# Altium footprint library FootprintLib.PcbLib: 36 footprints (part 1 of 3)
Each footprint in its own frame and in the unit in brackets; x right, y up, seen from the top. Pads: shape width x height; smd on the part's side, far side on the other; paste and mask are expansions set on the pad; w line width, h text height; cw(c..) or ccw(c..) is an arc to the next point about the centre after c.
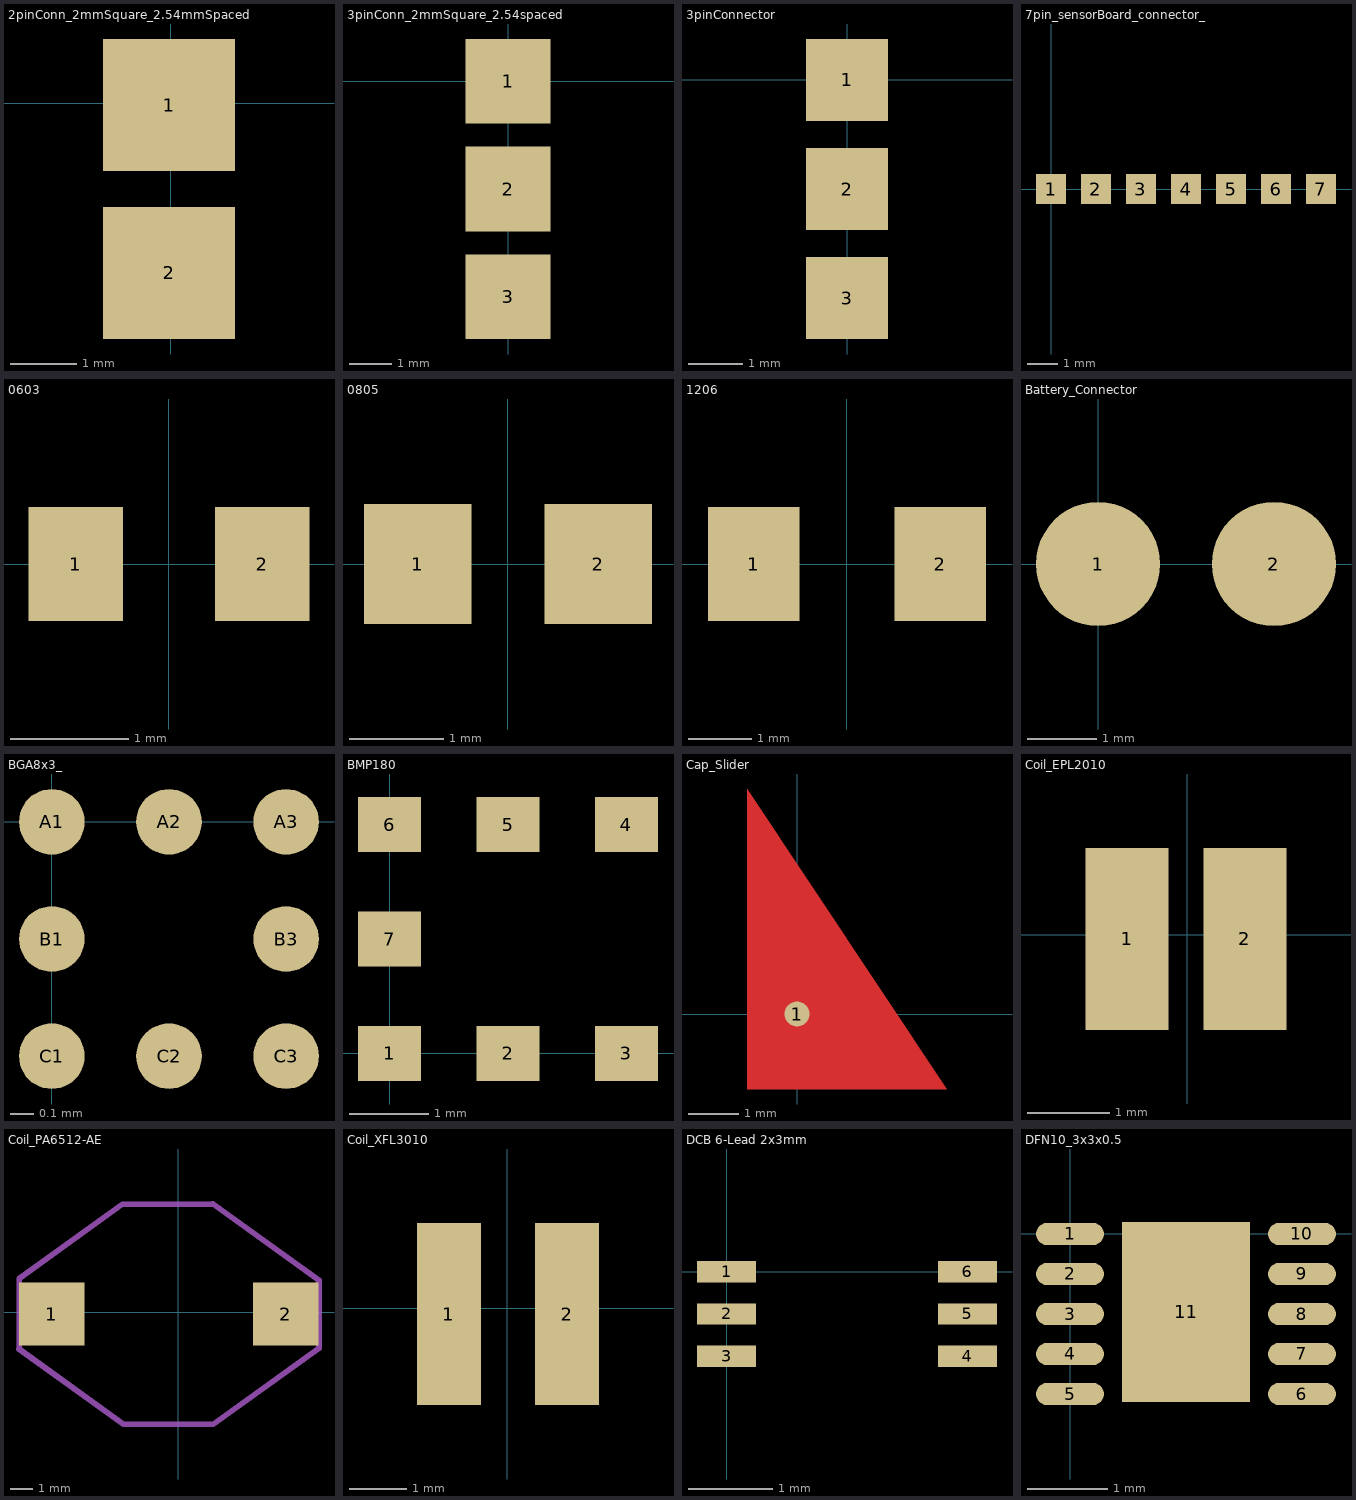
[diagram p0: the footprints below, top view; thin cyan lines are the x and y axes]

## 2pinConn_2mmSquare_2.54mmSpaced [mm]
pads (2):
  rect 2x2 smd: 1(-0.025,-0.025) 2(-0.025,-2.565)

## 3pinConn_2mmSquare_2.54spaced [mm]
pads (3):
  rect 2x2 smd: 1(0,0) 2(0,-2.54) 3(0,-5.08)

## 3pinConnector [mm]
pads (3):
  rect 1.5x1.5 smd: 1(0,0) 2(0,-2) 3(0,-4)

## 7pin_sensorBoard_connector_ [mm]
pads (7):
  rect 1x1 smd: 1(0,0) 2(1.5,0) 3(3,0) 4(4.5,0) 5(6,0) 6(7.5,0) 7(9,0)

## 0603 [mm]
pads (2):
  rect 0.8x0.965 smd: 1(-0.787,0) 2(0.788,0)

## 0805 [mm]
pads (2):
  rect 1.14x1.27 smd: 1(-0.955,0) 2(0.955,0)

## 1206 [mm]
pads (2):
  rect 1.45x1.8 smd: 1(-1.475,0) 2(1.475,0)

## Battery_Connector [mm]
pads (2):
  round 1.8 smd: 1(0,0) 2(2.55,0)

## BGA8x3_ [mm]
pads (8):
  round 0.28 smd: A1(0,0) A2(0.5,0) A3(1,0) B1(0,-0.5) B3(1,-0.5) C1(0,-1) C2(0.5,-1) C3(1,-1)

## BMP180 [mm]
pads (7):
  rect 0.8x0.7 smd: 1(0,0) 2(1.5,0) 3(3,0) 4(3,2.9) 5(1.5,2.9) 6(0,2.9) 7(0,1.45)

## Cap_Slider [mm]
pads (1):
  round 0.5 smd: 1(0,0)
Top Layer:
  region: -1,4.5 -1,-1.5 3,-1.5

## Coil_EPL2010 [mm]
pads (2):
  rect 1x2.2 smd: 1(-0.725,-0.05) 2(0.7,-0.05)

## Coil_PA6512-AE [mm]
pads (2):
  rect 2.9x2.8 smd: 1(-5.6,-0.075) 2(4.75,-0.075)
Mechanical 1:
  lines w0.254: -7.05,-1.62 -2.425,-4.95 1.55,-4.95 6.225,-1.584 6.225,1.421 1.525,4.805 ; -7.039,-1.609 -7.039,1.494 -2.475,4.78 1.5,4.78

## Coil_XFL3010 [mm]
pads (2):
  rect 1.12x3.2 smd: 1(-1.025,-0.1) 2(1.05,-0.1)

## DCB 6-Lead 2x3mm [mm]
pads (6):
  rect 0.7x0.25 smd: 1(0,0) 2(0,-0.5) 3(0,-1) 4(2.85,-1) 5(2.85,-0.5) 6(2.85,0)

## DFN10_3x3x0.5 [mm]
pads (11):
  rrect100% 0.85x0.28 smd: 1(0,0) 2(0,-0.5) 3(0,-1) 4(0,-1.5) 5(0,-2) 6(2.9,-2) 7(2.9,-1.5) 8(2.9,-1) 9(2.9,-0.5) 10(2.9,0)
  rect 1.6x2.25 smd: 11(1.45,-0.975)